# Altium integrated library B226_NINA-B302_carrier_mid.IntLib: 10 symbols
Pins are listed as number, name and electrical type; pins without a type are passive.

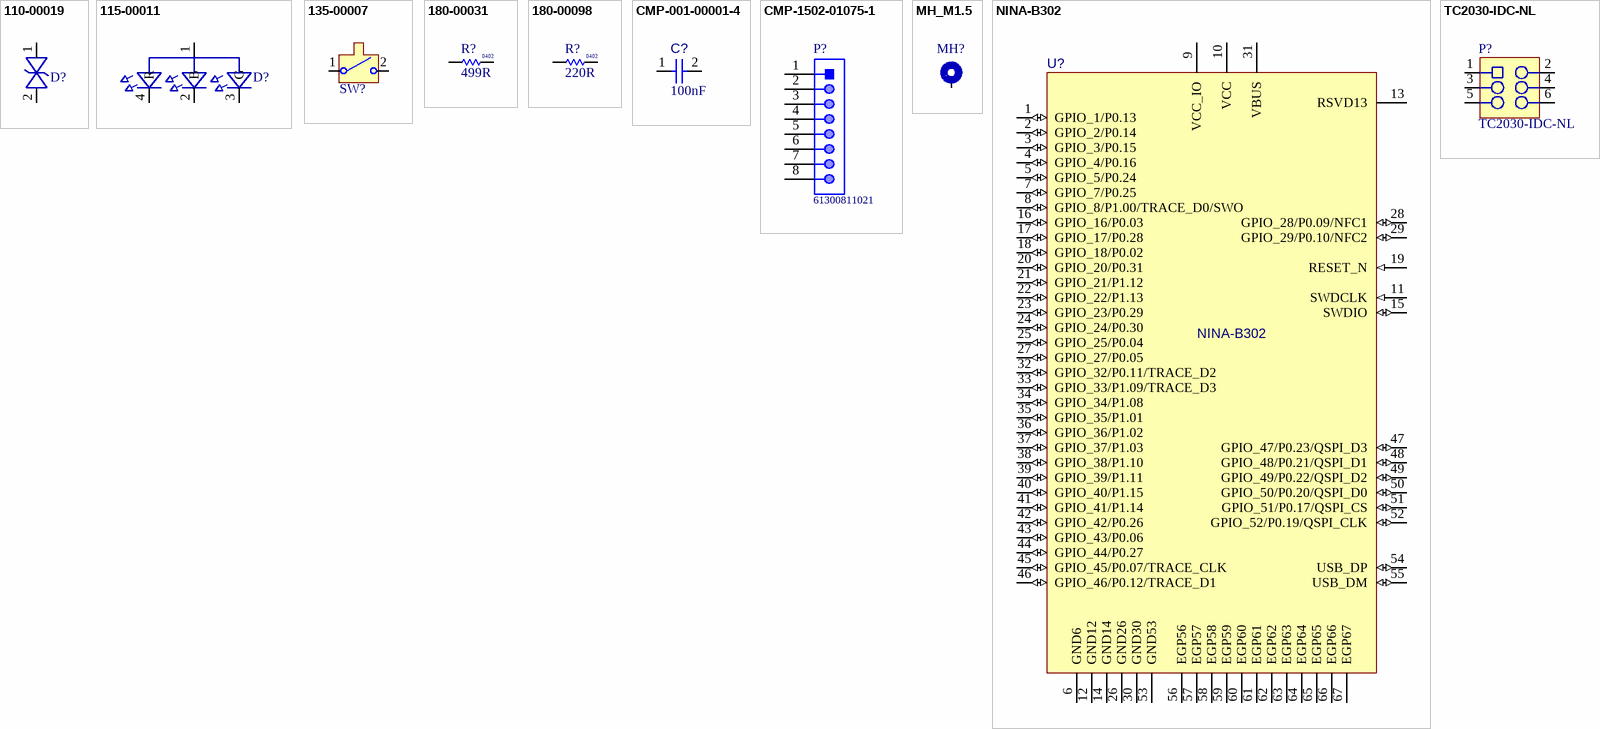
[diagram p0: symbols 110-00019 to TC2030-IDC-NL]

## 110-00019
designator D?
Diode, ESD9B, 3.3V, ST5G, SOD-923; Part Number: 110-00019; Part Name: Diode TVS 3.3V SOD-923; Manufacturer: ON Semiconductor; Manufacturer P/N: ESD9B3.3ST5G; Item_Phase: Production; Body Size: 0.8mm x 0.6mm; Component Mounting Type: SMT; Diode Type: TVS; Use in new designs: Yes; Part_Type: Diode; Revision: 0A; Supplier 1: Arrow; Supplier Part Number 1: ESD9B3.3ST5G; Arena Link: https://app.bom.com/a/4M5DJQ9Q9SR7DV4H?v=spec.summary; Height: 0.4mm; MFG Package: SOD-923; Package Type: SOD; Pins: 2; Voltage: 3.3V
footprint SOD-923
pins: 1, 2

## 115-00011
designator D?
LED, RGB Diffused SMT, PLCC4 4 Pin; Part Number: 115-00011; Part Name: LED RGB SMT 2mm x 2mm; Manufacturer: Cree, Inc.; Manufacturer P/N: CLMVB-FKA-CFHEHLCBB7a363; Item_Phase: Production; Body Size: 2.0mm x 2.0mm; Current: 20mA Red, 10mA Green, 10mA, Blue; Number of Circuits: 3; Use in new designs: Yes; Vf: 2V Red, 3V Green, 3V Blue; Voltage: 5V; Part_Type: LED; Revision: 0A; Supplier 1: Mouser; Supplier Part Number 1: 941-CLMVBFKACFHEHLCB; Arena Link: https://app.bom.com/a/UCV39GZGZIHY581D?v=spec.summary; Color: RGB; Component Mounting Type: SMT; Height: 1mm; MFG Package: PLCC4; Mounting Type: Vertical; Package Type: Custom; Pins: 4
footprint 4-PLCC
pins: 1 A, 2 B, 3 G, 4 R

## 135-00007
designator SW?
Button, Momentary SPST-NO, 0.05A, 12V, 3mm x 2.5mm; Part Number: 135-00007; Part Name: SWITCH TACTILE SPST-NO 0.05A 12V; Manufacturer: Omron Electronics Inc-EMC Div; Manufacturer P/N: B3U-1000P; Item_Phase: Production; Component Mounting Type: SMT; Current: 50mA; Switch/Button Circuit: SPST; Switch/Button Function: Off-Mom; Use in new designs: Yes; Voltage: 12VDC; Part_Type: Button; Revision: 0A; Supplier 1: Digi-Key; Supplier Part Number 1: SW1020CT-ND; Arena Link: https://app.bom.com/a/TBU28FYFYHGV5FQ0?v=spec.summary; Body Size: 3mm x 2.5mm; Height: 1.2mm; Pins: 2
footprint B3U-1000P
pins: 1, 2

## 180-00031
designator R?  value 499R  Size: 0402
Resistor, 499ohm, 1%, 1/16W, 0402; Part Number: 180-00031; Part Name: RES SMD 499 OHM 1% 1/16W 0402; Manufacturer: Rohm Semiconductor; Manufacturer P/N: MCR01MRTF4990; Item_Phase: Production; Component Mounting Type: SMT; Tolerance: +/- 1%; Use in new designs: Yes; Part_Type: Resistor; Supplier 1: Digi-Key; Supplier Part Number 1: RHM499CDCT-ND; Manufacturer 2: Samsung Electro-Mechanics America, Inc; Manufacturer P/N 2: RC1005F4990CS; Arena Link: https://app.bom.com/a/Q8RZ5CVCVEDU1SS5?v=spec.summary; Height: 0.4mm; Pins: 2; Power: 1/16W; Revision: 0D; Supplier 2: Digi-Key; Supplier Part Number 2: 1276-3992-1-ND; Alternate Footprint Ref: RES 0402
simulation model RESISTOR (Resistor)
signal-integrity model Res
footprint RES 0402 HD
pins: 1, 2

## 180-00098
designator R?  value 220R  Size: 0402
Resistor, 220ohm, 5%, 1/16W, 0402.; Part Number: 180-00098; Part Name: RES SMD 220 OHM 5% 1/16W 0402; Manufacturer: Panasonic Electronic Components; Manufacturer P/N: ERJ-2GEJ221X; Item_Phase: Production; Component Mounting Type: SMT; Tolerance: +/- 5%; Use in new designs: Yes; Part_Type: Resistor; Supplier 1: Digi-Key; Supplier Part Number 1: P220JCT-ND; Arena Link: https://app.bom.com/a/8Q9HNUDUDWVBJC30?v=spec.summary; Pins: 2; Power: 1/16W; Revision: 0C; Manufacturer 2: Samsung Electro-Mechanics America, Inc; Manufacturer P/N 2: RC1005J221CS; Supplier 2: Digi-Key; Supplier Part Number 2: 1276-4360-1-ND; Alternate Footprint Ref: RES 0402; Height: 0.4mm
simulation model RESISTOR (Resistor)
signal-integrity model Res
footprint RES 0402 HD
pins: 1, 2

## CMP-001-00001-4
designator C?, comment value 100nF  (hidden comment: Capacitor 0.1 uF +/- 5% 16 V 0402)
Chip Capacitor, 0.1 uF, +/- 5%, 16 V, 0402 (1005 Metric); Voltage Rating: 16V; Capacitor Type: Ceramic; Pins: 2; Min Operating Temperature: -55°C; Mounting Technology: SM; Max Operating Temperature: 125°C; RoHS Compliant: True; Case/Package: 0402; Tolerance: 5%
footprint CAPC1005X56X25ML10T15 (Chip Capacitor, 2-Leads, Body 1.10x0.60mm, IPC Low Density)
footprint CAPC1005X56X25NL10T15 (Chip Capacitor, 2-Leads, Body 1.10x0.60mm, IPC Medium Density)
footprint CAPC1005X56X25LL10T15 (Chip Capacitor, 2-Leads, Body 1.10x0.60mm, IPC High Density)
pins: 1, 2

## CMP-1502-01075-1
designator P?, comment 61300811021
THT Angled Pin Header WR-PHD, Pitch 2.54 mm, Single Row, 8 pins; Manufacturer: Wurth Elektronik; Manufacturer: Wurth Electronics; Pin Number: 8; Rated Current: 3A; Working Voltage: 250VAC; Withstanding Voltage: 500VAC; Gender: Male; Contact Resistance: 20mOhm; Pitch: 2.54mm; Part Number: 61300811021; Publisher: WurthElektronik; Manufacturer URL: http://www.we-online.de; Row Number: Single; Datasheet URL: https://katalog.we-online.de/em/datasheet/6130xx11021.pdf; Orientation: Angled; Operating Temperature: -40to105degC; Mounting Technology: THT; Package Reference: 61300811021; Packaging: Bag; Manufacturer Part Number: 61300811021
footprint 61300811021 (Pin Header, pitch 2.54 mm, THT, Angled, single row, 8p)
pins: 1, 2, 3, 4, 5, 6, 7, 8

## MH_M1.5
designator MH?, comment MH_M1.5DNP  (value not drawn)
1.5M screw mounting hole, plated; Added By: Jeremy D; Part Number: MH_M1.5; Size: 3.4mm x 3.4mm; Height: 0mm; Type: Mounting Hole; DNP: DNP; Added Date: 2015-07-09
footprint MH_M1.5
pins: 1

## NINA-B302
designator U?
Stand-alone Bluetooth low energy module; Manufacturer: u-blox; Part Description: Stand-alone Bluetooth low energy module; Value: NINA-B302
footprint NINA_LGA67R_1500X1000X338_PIFA (Stand-alone Bluetooth low energy module)
pins: 1 GPIO_1/P0.13 (io), 2 GPIO_2/P0.14 (io), 3 GPIO_3/P0.15 (io), 4 GPIO_4/P0.16 (io), 5 GPIO_5/P0.24 (io), 6 GND6 (power), 7 GPIO_7/P0.25 (io), 8 GPIO_8/P1.00/TRACE_D0/SWO (io), 9 VCC_IO (power), 10 VCC (power), 11 SWDCLK (in), 12 GND12 (power), 13 RSVD13, 14 GND14 (power), 15 SWDIO (io), 16 GPIO_16/P0.03 (io), 17 GPIO_17/P0.28 (io), 18 GPIO_18/P0.02 (io), 19 RESET_N (in), 20 GPIO_20/P0.31 (io), 21 GPIO_21/P1.12 (io), 22 GPIO_22/P1.13 (io), 23 GPIO_23/P0.29 (io), 24 GPIO_24/P0.30 (io), 25 GPIO_25/P0.04 (io), 26 GND26 (power), 27 GPIO_27/P0.05 (io), 28 GPIO_28/P0.09/NFC1 (io), 29 GPIO_29/P0.10/NFC2 (io), 30 GND30 (power), 31 VBUS (power), 32 GPIO_32/P0.11/TRACE_D2 (io), 33 GPIO_33/P1.09/TRACE_D3 (io), 34 GPIO_34/P1.08 (io), 35 GPIO_35/P1.01 (io), 36 GPIO_36/P1.02 (io), 37 GPIO_37/P1.03 (io), 38 GPIO_38/P1.10 (io), 39 GPIO_39/P1.11 (io), 40 GPIO_40/P1.15 (io), 41 GPIO_41/P1.14 (io), 42 GPIO_42/P0.26 (io), 43 GPIO_43/P0.06 (io), 44 GPIO_44/P0.27 (io), 45 GPIO_45/P0.07/TRACE_CLK (io), 46 GPIO_46/P0.12/TRACE_D1 (io), 47 GPIO_47/P0.23/QSPI_D3 (io), 48 GPIO_48/P0.21/QSPI_D1 (io), 49 GPIO_49/P0.22/QSPI_D2 (io), 50 GPIO_50/P0.20/QSPI_D0 (io), 51 GPIO_51/P0.17/QSPI_CS (io), 52 GPIO_52/P0.19/QSPI_CLK (io), 53 GND53 (power), 54 USB_DP (io), 55 USB_DM (io), 56 EGP56 (power), 57 EGP57 (power), 58 EGP58 (power), 59 EGP59 (power), 60 EGP60 (power), 61 EGP61 (power), 62 EGP62 (power), 63 EGP63 (power), 64 EGP64 (power), 65 EGP65 (power), 66 EGP66 (power), 67 EGP67 (power)

## TC2030-IDC-NL
designator P?, comment Manufacturer P/N: TC2030-IDC-NL  (hidden comment: TC2030-IDC-NLDNP)
CON PADS FOR CBL PLUG-OF-NAILS 6-PIN NO LEGS; Manufacturer: TAG Connect; Added By: Paul B; Part Number: TC2030-IDC-NL; Size: 6.731mm x 12.446mm; Height: 0; DNP: DNP; Added Date: 2015-04-22
footprint TC2030-IDC-NL
pins: 1, 2, 3, 4, 5, 6